# Altium schematic symbol library MSS-22D18.SchLib: 2 symbols
Pins are listed as number, name and electrical type; pins without a type are passive.

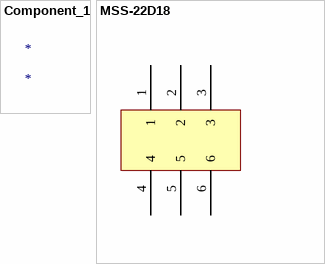
[diagram p0: symbols Component_1 to MSS-22D18]

## Component_1
designator *

## MSS-22D18
designator MSS-22D18, comment switch
footprint MSS-22D18 (switch)
pins: 1, 2, 3, 4, 5, 6